# EAGLE library part R-ARRAY_5R-THT (library F030NG)
Royal ohm DR1K Series 6 Terminations, 5 Resistors
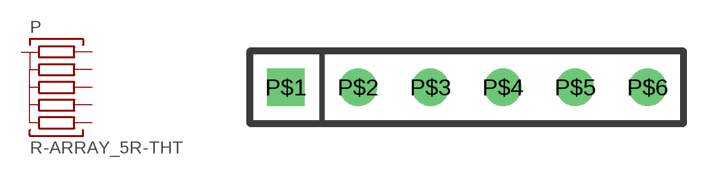
[diagram p80: symbol with the pads of DR1K-5/6; footprint DR1K-5/6]

Designator prefix P

## R-ARRAY_5R-THTDR1K-5/6  [DR1K-5/6]
P$1  1  pas
P$2  2  pas
P$3  3  pas
P$4  4  pas
P$5  5  pas
P$6  6  pas

## Footprint DR1K-5/6 (pad centres in mm)
drill 0.8 square: P$1 0,0
drill 0.8: P$2 2.54,0; P$3 5.08,0; P$4 7.62,0; P$5 10.16,0; P$6 12.7,0